# EAGLE library part HM10_BLUETOOTH_MODULE (library breakout-modules)
HM-10 Bluetooth 4 BLE Modules Breaks out the pins VCC GND RX/TX STATE BRK http://www.martyncurrey.com/hm-10-bluetooth-4ble-modules/
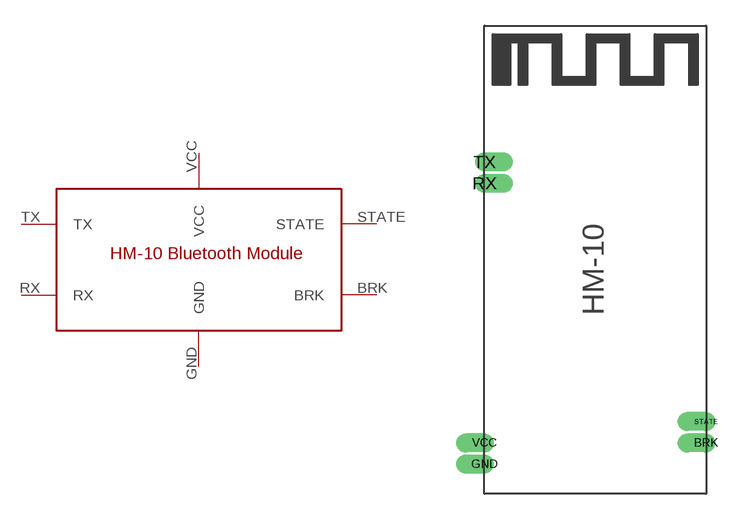
[diagram p3: symbol with the pads of HM10_BLUETOOTH_MODULE; footprint HM10_BLUETOOTH_MODULE]

Designator prefix -

## HM10_BLUETOOTH_MODULE  [HM10_BLUETOOTH_MODULE]
BRK  BRK  in
GND  GND  pwr
RX  RX
STATE  STATE  out
TX  TX
VCC  VCC  pwr

## Footprint HM10_BLUETOOTH_MODULE (pad centres in mm)
drill 0.6 pad 0.85 offset: BRK 6.5,3; GND -6.5,1.75; RX -6.5,18.25; STATE 6.5,4.25; TX -6.5,19.5; VCC -6.5,3